# EAGLE library part MICROFIT-06-DUAL (library Molex)
Molex MicroFit 3.00mm Pitch Header, Surface Mount, Dual Row, 6 Circuits Note, November 2014: These come in three styles: Through-hole, with metal clip retention to PCB (not currently represented) (cheapest) SMD, with solder tab retention (-SMD) (more expensive, commonly stocked) SMD, with metal clip retention (-SMD-CLIP_RETENTION) (most expensive, not often stocked) Please use them in that order! Drawing: http://www.molex.com/pdm_docs/sd/430450609_sd.pdf (right-angle) Information: http://www.molex.com/molex/products/datasheet.jsp?part=active/0430450618_PCB_HEADERS.xml
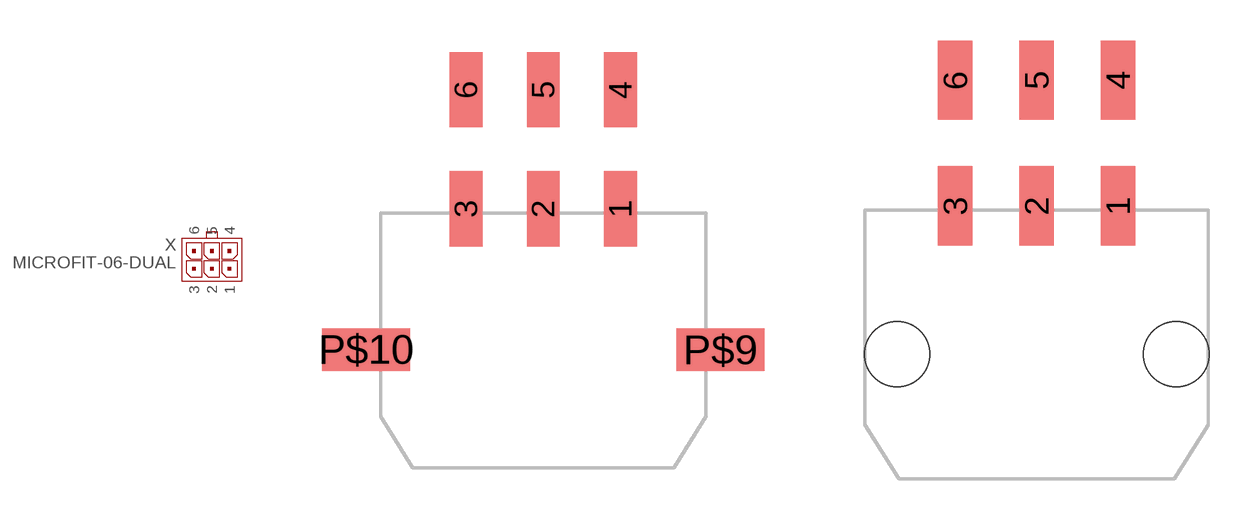
[diagram p1: symbol with the pads of MICROFIT-6-DUAL-RA-SMD; footprints MICROFIT-6-DUAL-RA-SMD, MICROFIT-6-DUAL-RA-SMD-CLIP_RETENTION]

Designator prefix X

## MICROFIT-06-DUAL-RA-SMD (PARTNO: 43045-0609)  [MICROFIT-6-DUAL-RA-SMD]
1  1  pas
2  2  pas
3  3  pas
4  4  pas
5  5  pas
6  6  pas

## MICROFIT-06-DUAL-RA-SMD-CLIP_RETENTION (PARTNO: 43045-0621)  [MICROFIT-6-DUAL-RA-SMD-CLIP_RETENTION]
Pads as for MICROFIT-6-DUAL-RA-SMD

## MICROFIT-06-DUAL-VERT-SMD-CLIP_RETENTION  [MICROFIT-6-VERT-SMD-CLIP_RETENTION]
Pads as for MICROFIT-6-DUAL-RA-SMD

## MICROFIT-06-DUAL-THROUGH_HOLE-PEG_RETENTION-GOLD (PARTNO: 43045-0601)  [MICROFIT-6-DUAL-RA-THROUGH_HOLE-PEG_RETENTION]
Pads as for MICROFIT-6-DUAL-RA-SMD

## MICROFIT-06-DUAL-GOLD-THRU-POLARIZING_PEG-VERT (PARTNO: 43045-0613), MICROFIT-06-DUAL-TIN-THRU-POLARIZING_PEG-VERT (PARTNO: 43045-0612)  [MICROFIT-6-VERT-THRU-POLARIZING_PEG]
Pads as for MICROFIT-6-DUAL-RA-SMD

## Footprint MICROFIT-6-DUAL-RA-SMD (pad centres in mm)
Molex MicroFit 3.00mm Pitch Header, Surface Mount, Dual Row, Right Angle, 6 Circuits Molex P/N: 43045-0609 Drawing: http://www.molex.com/pdm_docs/sd/430450609_sd.pdf
smd 1.27 x 2.921: 1 3,5.47; 2 0,5.47; 3 -3,5.47; 4 3,10.1; 5 0,10.1; 6 -3,10.1
smd 3.429 x 1.651: P$9 6.883,0; P$10 -6.883,0

## Footprint MICROFIT-6-DUAL-RA-SMD-CLIP_RETENTION (pad centres in mm)
smd 1.27 x 2.921: 1 3,5.47; 2 0,5.47; 3 -3,5.47; 4 3,10.1; 5 0,10.1; 6 -3,10.1
hole 2.413 at 5.144,0
hole 2.413 at -5.144,0

## Footprint MICROFIT-6-VERT-SMD-CLIP_RETENTION (pad centres in mm)
smd 1.27 x 2.54: 1 3,-4.699; 2 0,-4.699; 3 -3,-4.699; 4 3,4.699; 5 0,4.699; 6 -3,4.699
hole 2.41 at 5.15,0
hole 2.41 at -5.15,0

## Footprint MICROFIT-6-DUAL-RA-THROUGH_HOLE-PEG_RETENTION (pad centres in mm)
Micro-Fit 3.0? Right Angle Header, 3.00mm Pitch, Dual Row, 6 Circuits, with Snap-in Plastic Peg PCB Lock, Glow Wire Compliant, Black Product information page: http://www.molex.com/molex/products/datasheet.jsp?part=active/0430450601_PCB_HEADERS.xml (gold) Datasheet: http://www.molex.com/pdm_docs/sd/430450601_sd.pdf
drill 1.02 square: 1 3,0
drill 1.02 round: 2 0,0; 3 -3,0; 4 3,3; 5 0,3; 6 -3,3
hole 3 at 0,-4.32

## Footprint MICROFIT-6-VERT-THRU-POLARIZING_PEG (pad centres in mm)
Micro-Fit header, 6pos, vertical, through-hole, with PCB polarizing peg Part numbers: 43045-0612 (tin) 43045-0613 (gold 15 uin)
drill 1.02 square: 1 3,-1.5
drill 1.02 round: 2 0,-1.5; 3 -3,-1.5; 4 3,1.5; 5 0,1.5; 6 -3,1.5
hole 1.02 at 6,2.44
hole 1.02 at -6,2.44